# Altium footprint library LH151B.PcbLib: 1 footprints
Each footprint in its own frame and in the unit in brackets; x right, y up, seen from the top. Pads: shape width x height; smd on the part's side, far side on the other; paste and mask are expansions set on the pad; w line width, h text height; cw(c..) or ccw(c..) is an arc to the next point about the centre after c.
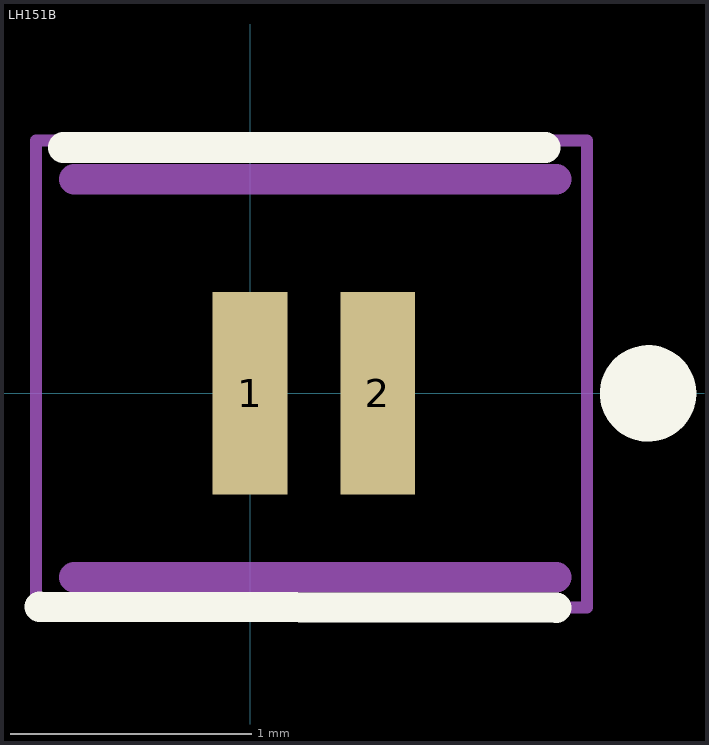
[diagram p0: the footprint, top view; thin cyan lines are the x and y axes]

## LH151B [mm]
pads (2):
  rect 0.31x0.84 smd paste-1 mask+0: 1(0,0) 2(0.53,0)
Top Overlay:
  circle w0.2: c1.651,0 r0.1
  lines w0.127: -0.873,-0.885 1.27,-0.889 ; -0.775,1.02 1.225,1.02
Mechanical 13:
  lines w0.127: -0.73,-0.762 1.27,-0.762 ; -0.73,0.889 1.27,0.889
Mechanical 15:
  lines w0.05: -0.889,-0.889 -0.889,1.05 1.397,1.05 1.397,-0.889 -0.889,-0.889
3D body "CSP_LH151B_200403.stp": height 0.29, standoff -0.04, extent -0.596,-0.811 1.104,0.889